# EAGLE library part SHT21 (library Sensor)
SENSOR HUMID/TEMP 3V I2C 2% SMD Manufacturer's datasheet <https://www.sensirion.com/fileadmin/user_upload/customers/sensirion/Dokumente/0_Datasheets/Humidity/Sensirion_Humidity_Sensors_SHT21_Datasheet.pdf>
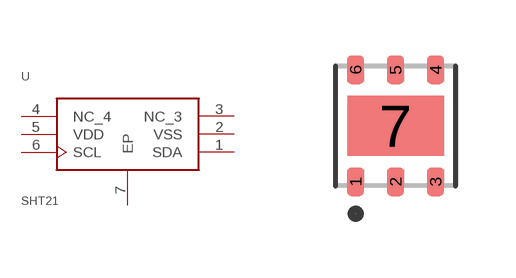
[diagram p23: symbol with the pads of 6-TDFN; footprint 6-TDFN]

Designator prefix U

## SHT21 (CREATED_BY: PCBLayout.com; DIGIKEY_PART_NUMBER: 1649-1005-1-ND; MANUFACTURER: Sensirion AG; MPN: SHT21; PACKAGE: 6-TDFN)  [6-TDFN]
1  SDA
2  VSS  pwr
3  NC_3  pas
4  NC_4  pas
5  VDD  pwr
6  SCL
7  EP  pwr

## Footprint 6-TDFN (pad centres in mm)
Small Outline No-Lead (SON with Tab), 1.00 mm pitch; 6 pin, 3.00 mm L X 3.00 mm W X 1.10 mm H body PCB Libraries Packages
smd 0.43 x 0.71: 1 -1,-1.4; 2 0,-1.4; 3 1,-1.4; 4 1,1.4; 5 0,1.4; 6 -1,1.4
smd 2.4 x 1.5: 7 0,0